# Altium schematic symbol library processor_rockchip.SchLib: 1 symbol
Pins are listed as number, name and electrical type; pins without a type are passive.

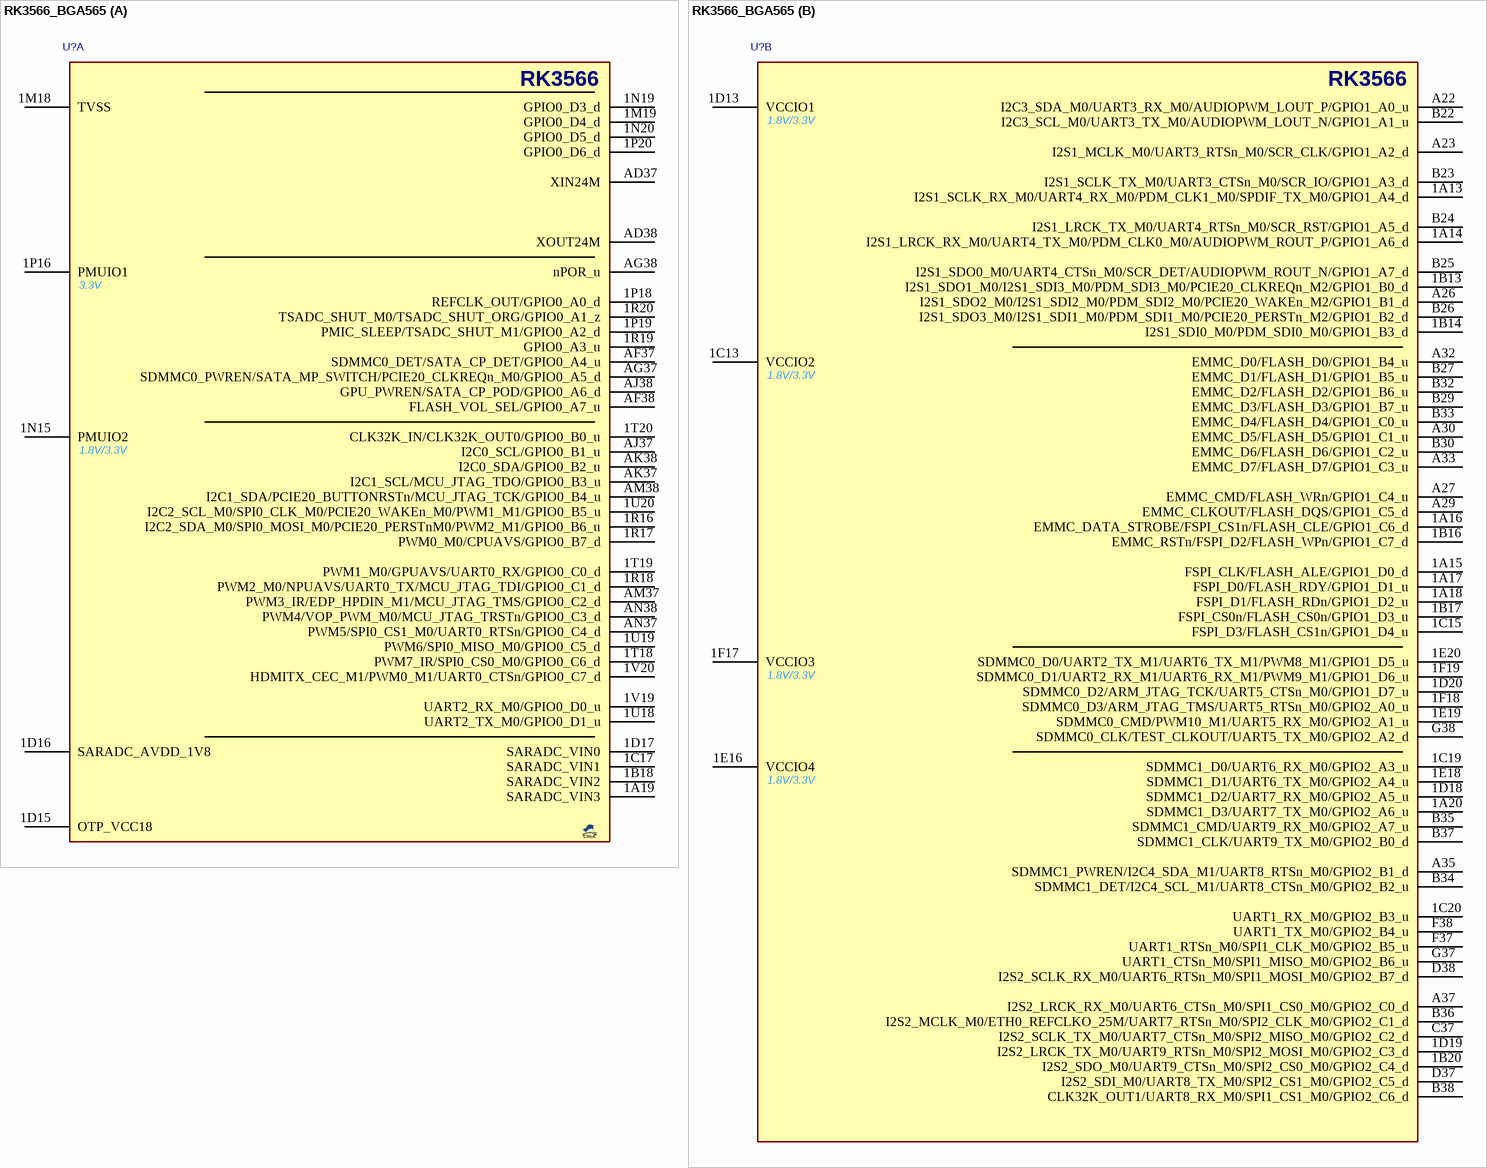
[diagram p0: symbol RK3566_BGA565]

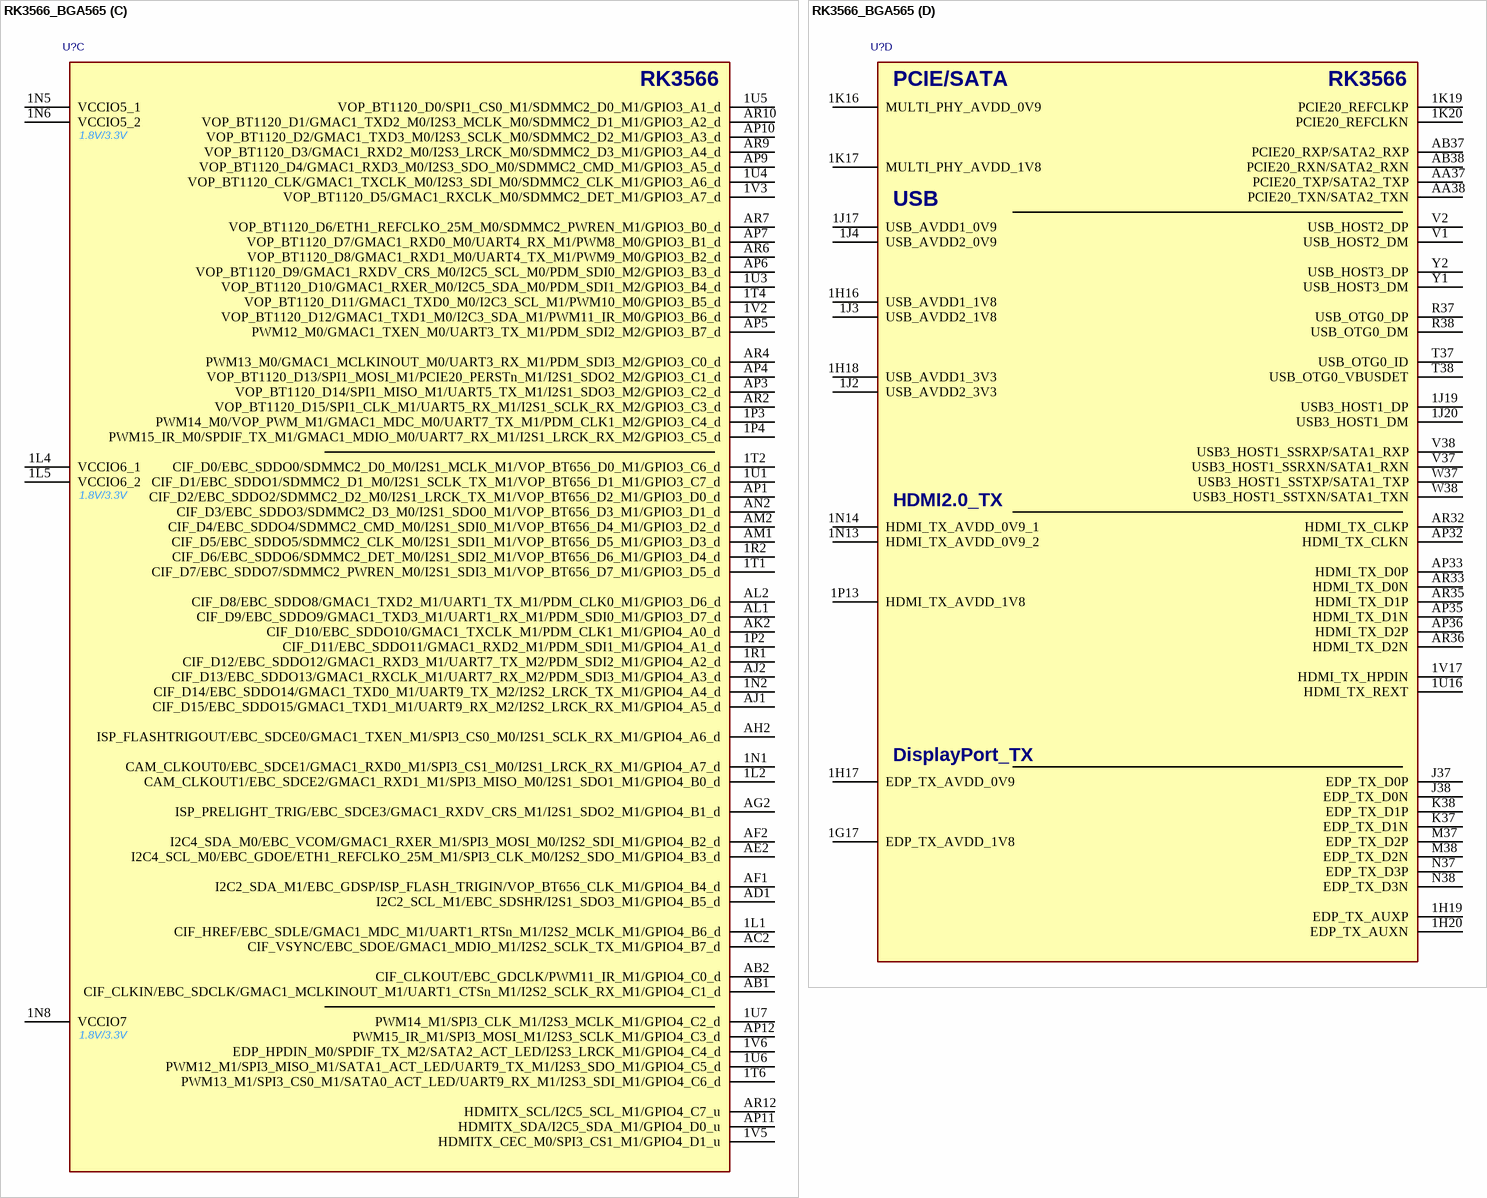
[diagram p1: symbol RK3566_BGA565]

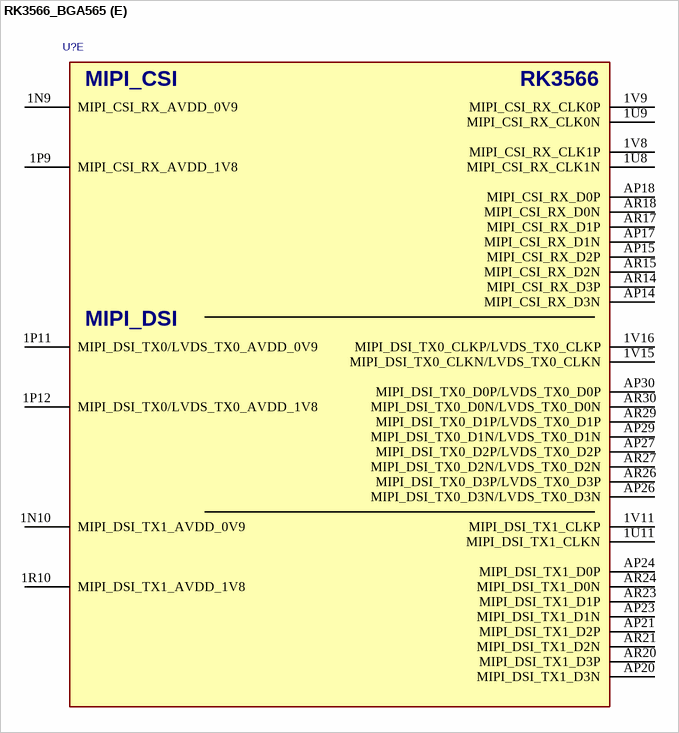
[diagram p2: symbol RK3566_BGA565]

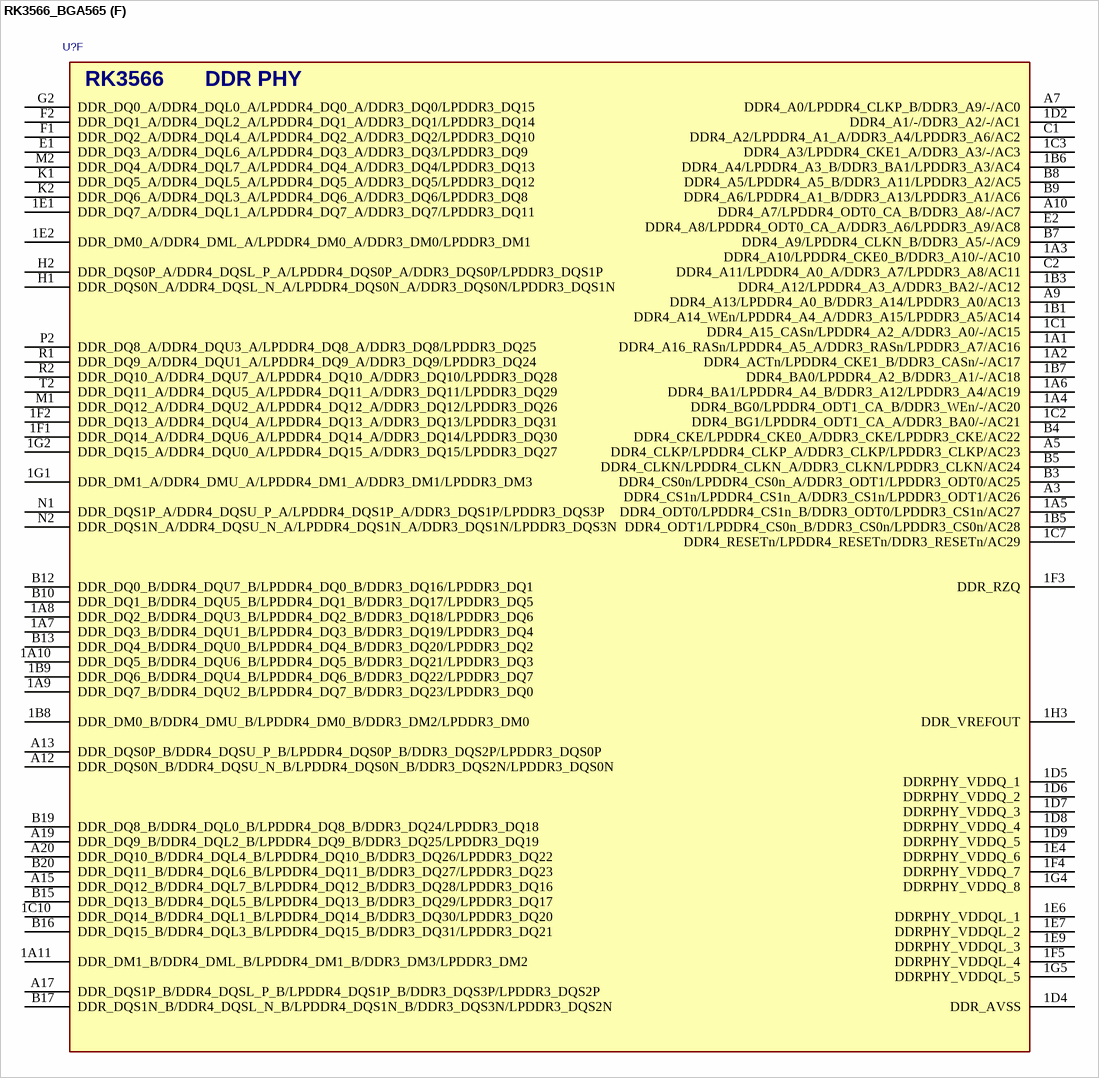
[diagram p3: symbol RK3566_BGA565]

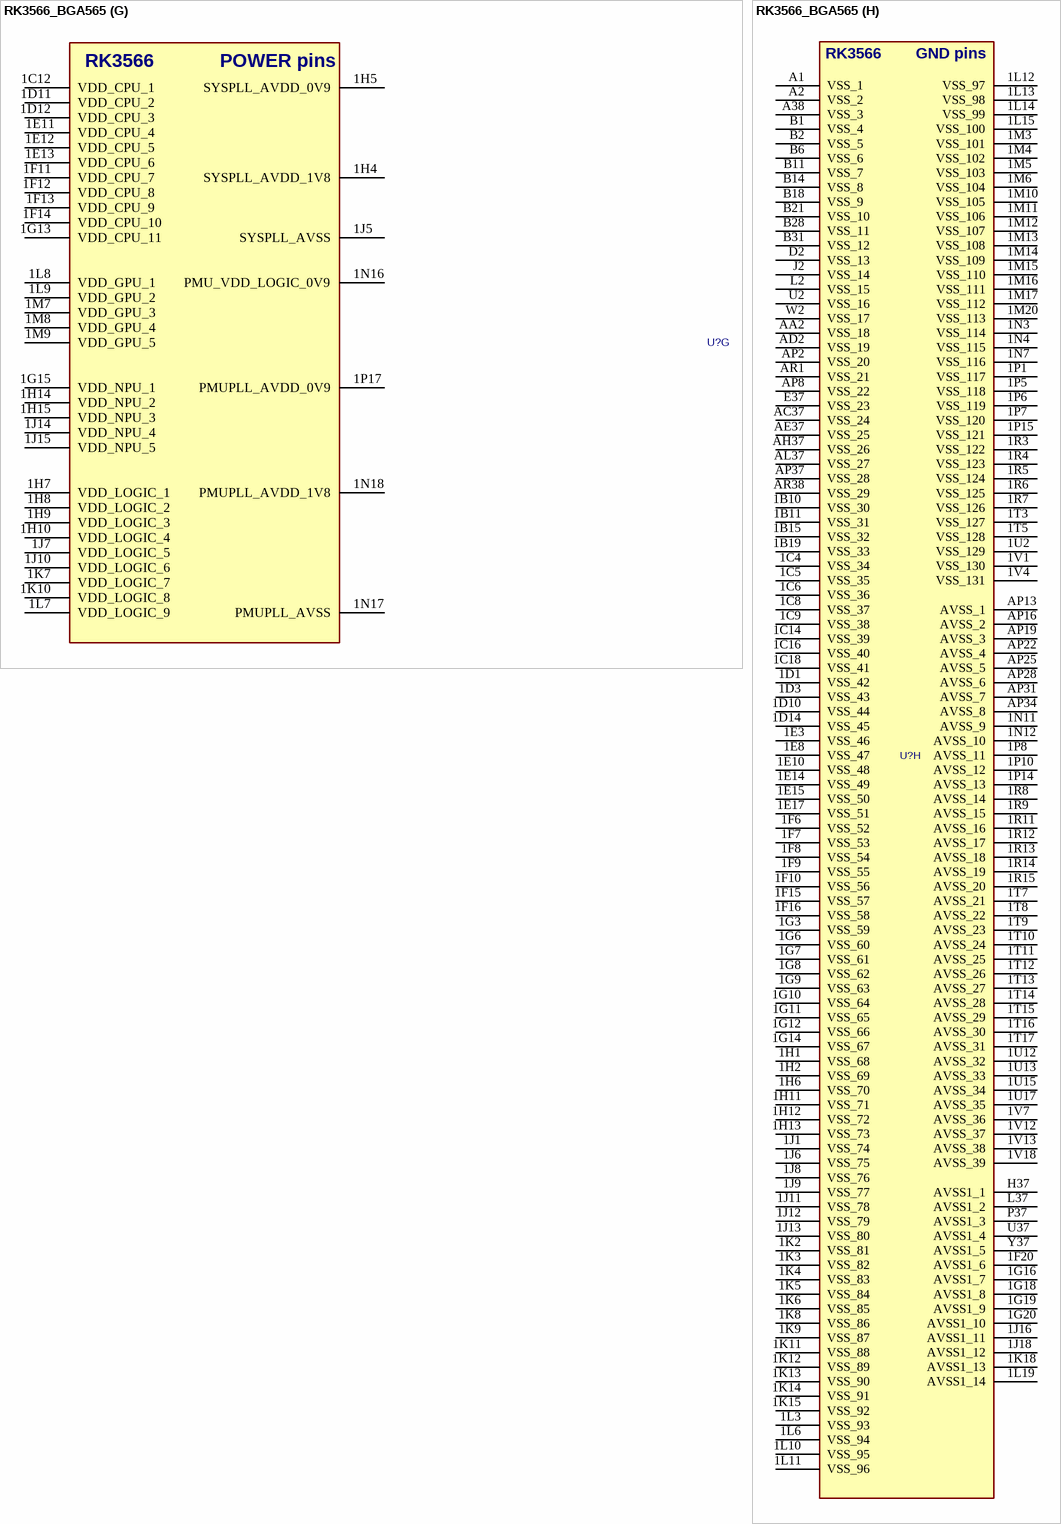
[diagram p4: symbol RK3566_BGA565]

## RK3566_BGA565
designator U?, comment RK3566  (value not drawn)
Processor, Cortex-A55 x4; MANF: Rockchip; PARAM: 4x Cortex-A55; VALUE: RK3566; MANF_P#: RK3566; PRICE: 10$
footprint BGA65_565 (BGA, FCCSP565L, Body 15.5x14.4x0.9mm, Pitch 0.65mm)
part A pins: 1A19  SARADC_VIN3, 1B18  SARADC_VIN2, 1C17  SARADC_VIN1, 1D15  OTP_VCC18, 1D16  SARADC_AVDD_1V8, 1D17  SARADC_VIN0, 1M18  TVSS, 1M19  GPIO0_D4_d, 1N15  PMUIO2, 1N19  GPIO0_D3_d, 1N20  GPIO0_D5_d, 1P16  PMUIO1, 1P18  REFCLK_OUT/GPIO0_A0_d, 1P19  PMIC_SLEEP/TSADC_SHUT_M1/GPIO0_A2_d, 1P20  GPIO0_D6_d, 1R16 I2C2_SDA_M0/SPI0_MOSI_M0/PCIE20_PERSTnM0/PWM2_M1/GPIO0_B6_u, 1R17 PWM0_M0/CPUAVS/GPIO0_B7_d, 1R18 PWM2_M0/NPUAVS/UART0_TX/MCU_JTAG_TDI/GPIO0_C1_d, 1R19 GPIO0_A3_u, 1R20 TSADC_SHUT_M0/TSADC_SHUT_ORG/GPIO0_A1_z, 1T18 PWM7_IR/SPI0_CS0_M0/GPIO0_C6_d, 1T19 PWM1_M0/GPUAVS/UART0_RX/GPIO0_C0_d, 1T20 CLK32K_IN/CLK32K_OUT0/GPIO0_B0_u, 1U18 UART2_TX_M0/GPIO0_D1_u, 1U19 PWM6/SPI0_MISO_M0/GPIO0_C5_d, 1U20 I2C2_SCL_M0/SPI0_CLK_M0/PCIE20_WAKEn_M0/PWM1_M1/GPIO0_B5_u, 1V19 UART2_RX_M0/GPIO0_D0_u, 1V20 HDMITX_CEC_M1/PWM0_M1/UART0_CTSn/GPIO0_C7_d, AD37 XIN24M, AD38 XOUT24M, AF37 SDMMC0_DET/SATA_CP_DET/GPIO0_A4_u, AF38 FLASH_VOL_SEL/GPIO0_A7_u, AG37 SDMMC0_PWREN/SATA_MP_SWITCH/PCIE20_CLKREQn_M0/GPIO0_A5_d, AG38 nPOR_u, AJ37 I2C0_SCL/GPIO0_B1_u, AJ38 GPU_PWREN/SATA_CP_POD/GPIO0_A6_d, AK37 I2C1_SCL/MCU_JTAG_TDO/GPIO0_B3_u, AK38 I2C0_SDA/GPIO0_B2_u, AM37 PWM3_IR/EDP_HPDIN_M1/MCU_JTAG_TMS/GPIO0_C2_d, AM38 I2C1_SDA/PCIE20_BUTTONRSTn/MCU_JTAG_TCK/GPIO0_B4_u, AN37 PWM5/SPI0_CS1_M0/UART0_RTSn/GPIO0_C4_d, AN38 PWM4/VOP_PWM_M0/MCU_JTAG_TRSTn/GPIO0_C3_d
part B pins: 1A13  I2S1_SCLK_RX_M0/UART4_RX_M0/PDM_CLK1_M0/SPDIF_TX_M0/GPIO1_A4_d, 1A14  I2S1_LRCK_RX_M0/UART4_TX_M0/PDM_CLK0_M0/AUDIOPWM_ROUT_P/GPIO1_A6_d, 1A15  FSPI_CLK/FLASH_ALE/GPIO1_D0_d, 1A16  EMMC_DATA_STROBE/FSPI_CS1n/FLASH_CLE/GPIO1_C6_d, 1A17  FSPI_D0/FLASH_RDY/GPIO1_D1_u, 1A18  FSPI_D1/FLASH_RDn/GPIO1_D2_u, 1A20  SDMMC1_D3/UART7_TX_M0/GPIO2_A6_u, 1B13  I2S1_SDO1_M0/I2S1_SDI3_M0/PDM_SDI3_M0/PCIE20_CLKREQn_M2/GPIO1_B0_d, 1B14  I2S1_SDI0_M0/PDM_SDI0_M0/GPIO1_B3_d, 1B16  EMMC_RSTn/FSPI_D2/FLASH_WPn/GPIO1_C7_d, 1B17  FSPI_CS0n/FLASH_CS0n/GPIO1_D3_u, 1B20  I2S2_SDO_M0/UART9_CTSn_M0/SPI2_CS0_M0/GPIO2_C4_d, 1C13  VCCIO2, 1C15  FSPI_D3/FLASH_CS1n/GPIO1_D4_u, 1C19  SDMMC1_D0/UART6_RX_M0/GPIO2_A3_u, 1C20  UART1_RX_M0/GPIO2_B3_u, 1D13  VCCIO1, 1D18  SDMMC1_D2/UART7_RX_M0/GPIO2_A5_u, 1D19  I2S2_LRCK_TX_M0/UART9_RTSn_M0/SPI2_MOSI_M0/GPIO2_C3_d, 1D20  SDMMC0_D2/ARM_JTAG_TCK/UART5_CTSn_M0/GPIO1_D7_u, 1E16 VCCIO4, 1E18 SDMMC1_D1/UART6_TX_M0/GPIO2_A4_u, 1E19 SDMMC0_CMD/PWM10_M1/UART5_RX_M0/GPIO2_A1_u, 1E20 SDMMC0_D0/UART2_TX_M1/UART6_TX_M1/PWM8_M1/GPIO1_D5_u, 1F17  VCCIO3, 1F18  SDMMC0_D3/ARM_JTAG_TMS/UART5_RTSn_M0/GPIO2_A0_u, 1F19  SDMMC0_D1/UART2_RX_M1/UART6_RX_M1/PWM9_M1/GPIO1_D6_u, A22 I2C3_SDA_M0/UART3_RX_M0/AUDIOPWM_LOUT_P/GPIO1_A0_u, A23 I2S1_MCLK_M0/UART3_RTSn_M0/SCR_CLK/GPIO1_A2_d, A26 I2S1_SDO2_M0/I2S1_SDI2_M0/PDM_SDI2_M0/PCIE20_WAKEn_M2/GPIO1_B1_d, A27 EMMC_CMD/FLASH_WRn/GPIO1_C4_u, A29 EMMC_CLKOUT/FLASH_DQS/GPIO1_C5_d, A30 EMMC_D5/FLASH_D5/GPIO1_C1_u, A32 EMMC_D0/FLASH_D0/GPIO1_B4_u, A33 EMMC_D7/FLASH_D7/GPIO1_C3_u, A35 SDMMC1_PWREN/I2C4_SDA_M1/UART8_RTSn_M0/GPIO2_B1_d, A37 I2S2_LRCK_RX_M0/UART6_CTSn_M0/SPI1_CS0_M0/GPIO2_C0_d, B22 I2C3_SCL_M0/UART3_TX_M0/AUDIOPWM_LOUT_N/GPIO1_A1_u, B23 I2S1_SCLK_TX_M0/UART3_CTSn_M0/SCR_IO/GPIO1_A3_d, B24 I2S1_LRCK_TX_M0/UART4_RTSn_M0/SCR_RST/GPIO1_A5_d, B25 I2S1_SDO0_M0/UART4_CTSn_M0/SCR_DET/AUDIOPWM_ROUT_N/GPIO1_A7_d, B26 I2S1_SDO3_M0/I2S1_SDI1_M0/PDM_SDI1_M0/PCIE20_PERSTn_M2/GPIO1_B2_d, B27 EMMC_D1/FLASH_D1/GPIO1_B5_u, B29 EMMC_D3/FLASH_D3/GPIO1_B7_u, B30 EMMC_D6/FLASH_D6/GPIO1_C2_u, B32 EMMC_D2/FLASH_D2/GPIO1_B6_u, B33 EMMC_D4/FLASH_D4/GPIO1_C0_u, B34 SDMMC1_DET/I2C4_SCL_M1/UART8_CTSn_M0/GPIO2_B2_u, B35 SDMMC1_CMD/UART9_RX_M0/GPIO2_A7_u, B36 I2S2_MCLK_M0/ETH0_REFCLKO_25M/UART7_RTSn_M0/SPI2_CLK_M0/GPIO2_C1_d, B37 SDMMC1_CLK/UART9_TX_M0/GPIO2_B0_d, B38 CLK32K_OUT1/UART8_RX_M0/SPI1_CS1_M0/GPIO2_C6_d, C37 I2S2_SCLK_TX_M0/UART7_CTSn_M0/SPI2_MISO_M0/GPIO2_C2_d, D37 I2S2_SDI_M0/UART8_TX_M0/SPI2_CS1_M0/GPIO2_C5_d, D38 I2S2_SCLK_RX_M0/UART6_RTSn_M0/SPI1_MOSI_M0/GPIO2_B7_d, F37 UART1_RTSn_M0/SPI1_CLK_M0/GPIO2_B5_u, F38 UART1_TX_M0/GPIO2_B4_u, G37 UART1_CTSn_M0/SPI1_MISO_M0/GPIO2_B6_u, G38 SDMMC0_CLK/TEST_CLKOUT/UART5_TX_M0/GPIO2_A2_d
part C pins: 1L1  CIF_HREF/EBC_SDLE/GMAC1_MDC_M1/UART1_RTSn_M1/I2S2_MCLK_M1/GPIO4_B6_d, 1L2  CAM_CLKOUT1/EBC_SDCE2/GMAC1_RXD1_M1/SPI3_MISO_M0/I2S1_SDO1_M1/GPIO4_B0_d, 1L4  VCCIO6_1, 1L5  VCCIO6_2, 1N1  CAM_CLKOUT0/EBC_SDCE1/GMAC1_RXD0_M1/SPI3_CS1_M0/I2S1_LRCK_RX_M1/GPIO4_A7_d, 1N2  CIF_D14/EBC_SDDO14/GMAC1_TXD0_M1/UART9_TX_M2/I2S2_LRCK_TX_M1/GPIO4_A4_d, 1N5  VCCIO5_1, 1N6  VCCIO5_2, 1N8  VCCIO7, 1P2  CIF_D11/EBC_SDDO11/GMAC1_RXD2_M1/PDM_SDI1_M1/GPIO4_A1_d, 1P3  PWM14_M0/VOP_PWM_M1/GMAC1_MDC_M0/UART7_TX_M1/PDM_CLK1_M2/GPIO3_C4_d, 1P4  PWM15_IR_M0/SPDIF_TX_M1/GMAC1_MDIO_M0/UART7_RX_M1/I2S1_LRCK_RX_M2/GPIO3_C5_d, 1R1  CIF_D12/EBC_SDDO12/GMAC1_RXD3_M1/UART7_TX_M2/PDM_SDI2_M1/GPIO4_A2_d, 1R2  CIF_D6/EBC_SDDO6/SDMMC2_DET_M0/I2S1_SDI2_M1/VOP_BT656_D6_M1/GPIO3_D4_d, 1T1 CIF_D7/EBC_SDDO7/SDMMC2_PWREN_M0/I2S1_SDI3_M1/VOP_BT656_D7_M1/GPIO3_D5_d, 1T2 CIF_D0/EBC_SDDO0/SDMMC2_D0_M0/I2S1_MCLK_M1/VOP_BT656_D0_M1/GPIO3_C6_d, 1T4 VOP_BT1120_D11/GMAC1_TXD0_M0/I2C3_SCL_M1/PWM10_M0/GPIO3_B5_d, 1T6 PWM13_M1/SPI3_CS0_M1/SATA0_ACT_LED/UART9_RX_M1/I2S3_SDI_M1/GPIO4_C6_d, 1U1 CIF_D1/EBC_SDDO1/SDMMC2_D1_M0/I2S1_SCLK_TX_M1/VOP_BT656_D1_M1/GPIO3_C7_d, 1U3 VOP_BT1120_D10/GMAC1_RXER_M0/I2C5_SDA_M0/PDM_SDI1_M2/GPIO3_B4_d, 1U4 VOP_BT1120_CLK/GMAC1_TXCLK_M0/I2S3_SDI_M0/SDMMC2_CLK_M1/GPIO3_A6_d, 1U5 VOP_BT1120_D0/SPI1_CS0_M1/SDMMC2_D0_M1/GPIO3_A1_d, 1U6 PWM12_M1/SPI3_MISO_M1/SATA1_ACT_LED/UART9_TX_M1/I2S3_SDO_M1/GPIO4_C5_d, 1U7 PWM14_M1/SPI3_CLK_M1/I2S3_MCLK_M1/GPIO4_C2_d, 1V2 VOP_BT1120_D12/GMAC1_TXD1_M0/I2C3_SDA_M1/PWM11_IR_M0/GPIO3_B6_d, 1V3 VOP_BT1120_D5/GMAC1_RXCLK_M0/SDMMC2_DET_M1/GPIO3_A7_d, 1V5 HDMITX_CEC_M0/SPI3_CS1_M1/GPIO4_D1_u, 1V6 EDP_HPDIN_M0/SPDIF_TX_M2/SATA2_ACT_LED/I2S3_LRCK_M1/GPIO4_C4_d, AB1 CIF_CLKIN/EBC_SDCLK/GMAC1_MCLKINOUT_M1/UART1_CTSn_M1/I2S2_SCLK_RX_M1/GPIO4_C1_d, AB2 CIF_CLKOUT/EBC_GDCLK/PWM11_IR_M1/GPIO4_C0_d, AC2 CIF_VSYNC/EBC_SDOE/GMAC1_MDIO_M1/I2S2_SCLK_TX_M1/GPIO4_B7_d, AD1 I2C2_SCL_M1/EBC_SDSHR/I2S1_SDO3_M1/GPIO4_B5_d, AE2 I2C4_SCL_M0/EBC_GDOE/ETH1_REFCLKO_25M_M1/SPI3_CLK_M0/I2S2_SDO_M1/GPIO4_B3_d, AF1 I2C2_SDA_M1/EBC_GDSP/ISP_FLASH_TRIGIN/VOP_BT656_CLK_M1/GPIO4_B4_d, AF2 I2C4_SDA_M0/EBC_VCOM/GMAC1_RXER_M1/SPI3_MOSI_M0/I2S2_SDI_M1/GPIO4_B2_d, AG2 ISP_PRELIGHT_TRIG/EBC_SDCE3/GMAC1_RXDV_CRS_M1/I2S1_SDO2_M1/GPIO4_B1_d, AH2 ISP_FLASHTRIGOUT/EBC_SDCE0/GMAC1_TXEN_M1/SPI3_CS0_M0/I2S1_SCLK_RX_M1/GPIO4_A6_d, AJ1 CIF_D15/EBC_SDDO15/GMAC1_TXD1_M1/UART9_RX_M2/I2S2_LRCK_RX_M1/GPIO4_A5_d, AJ2 CIF_D13/EBC_SDDO13/GMAC1_RXCLK_M1/UART7_RX_M2/PDM_SDI3_M1/GPIO4_A3_d, AK2 CIF_D10/EBC_SDDO10/GMAC1_TXCLK_M1/PDM_CLK1_M1/GPIO4_A0_d, AL1 CIF_D9/EBC_SDDO9/GMAC1_TXD3_M1/UART1_RX_M1/PDM_SDI0_M1/GPIO3_D7_d, AL2 CIF_D8/EBC_SDDO8/GMAC1_TXD2_M1/UART1_TX_M1/PDM_CLK0_M1/GPIO3_D6_d, AM1 CIF_D5/EBC_SDDO5/SDMMC2_CLK_M0/I2S1_SDI1_M1/VOP_BT656_D5_M1/GPIO3_D3_d, AM2 CIF_D4/EBC_SDDO4/SDMMC2_CMD_M0/I2S1_SDI0_M1/VOP_BT656_D4_M1/GPIO3_D2_d, AN2 CIF_D3/EBC_SDDO3/SDMMC2_D3_M0/I2S1_SDO0_M1/VOP_BT656_D3_M1/GPIO3_D1_d, AP1 CIF_D2/EBC_SDDO2/SDMMC2_D2_M0/I2S1_LRCK_TX_M1/VOP_BT656_D2_M1/GPIO3_D0_d, AP3 VOP_BT1120_D14/SPI1_MISO_M1/UART5_TX_M1/I2S1_SDO3_M2/GPIO3_C2_d, AP4 VOP_BT1120_D13/SPI1_MOSI_M1/PCIE20_PERSTn_M1/I2S1_SDO2_M2/GPIO3_C1_d, AP5 PWM12_M0/GMAC1_TXEN_M0/UART3_TX_M1/PDM_SDI2_M2/GPIO3_B7_d, AP6 VOP_BT1120_D9/GMAC1_RXDV_CRS_M0/I2C5_SCL_M0/PDM_SDI0_M2/GPIO3_B3_d, AP7 VOP_BT1120_D7/GMAC1_RXD0_M0/UART4_RX_M1/PWM8_M0/GPIO3_B1_d, AP9 VOP_BT1120_D4/GMAC1_RXD3_M0/I2S3_SDO_M0/SDMMC2_CMD_M1/GPIO3_A5_d, AP10 VOP_BT1120_D2/GMAC1_TXD3_M0/I2S3_SCLK_M0/SDMMC2_D2_M1/GPIO3_A3_d, AP11 HDMITX_SDA/I2C5_SDA_M1/GPIO4_D0_u, AP12 PWM15_IR_M1/SPI3_MOSI_M1/I2S3_SCLK_M1/GPIO4_C3_d, AR2 VOP_BT1120_D15/SPI1_CLK_M1/UART5_RX_M1/I2S1_SCLK_RX_M2/GPIO3_C3_d, AR4 PWM13_M0/GMAC1_MCLKINOUT_M0/UART3_RX_M1/PDM_SDI3_M2/GPIO3_C0_d, AR6 VOP_BT1120_D8/GMAC1_RXD1_M0/UART4_TX_M1/PWM9_M0/GPIO3_B2_d, AR7 VOP_BT1120_D6/ETH1_REFCLKO_25M_M0/SDMMC2_PWREN_M1/GPIO3_B0_d, AR9 VOP_BT1120_D3/GMAC1_RXD2_M0/I2S3_LRCK_M0/SDMMC2_D3_M1/GPIO3_A4_d, AR10 VOP_BT1120_D1/GMAC1_TXD2_M0/I2S3_MCLK_M0/SDMMC2_D1_M1/GPIO3_A2_d, AR12 HDMITX_SCL/I2C5_SCL_M1/GPIO4_C7_u
part D pins: 1G17  EDP_TX_AVDD_1V8, 1H16  USB_AVDD1_1V8, 1H17  EDP_TX_AVDD_0V9, 1H18  USB_AVDD1_3V3, 1H19  EDP_TX_AUXP, 1H20  EDP_TX_AUXN, 1J2  USB_AVDD2_3V3, 1J3  USB_AVDD2_1V8, 1J4  USB_AVDD2_0V9, 1J17  USB_AVDD1_0V9, 1J19  USB3_HOST1_DP, 1J20  USB3_HOST1_DM, 1K16  MULTI_PHY_AVDD_0V9, 1K17  MULTI_PHY_AVDD_1V8, 1K19  PCIE20_REFCLKP, 1K20  PCIE20_REFCLKN, 1N13  HDMI_TX_AVDD_0V9_2, 1N14  HDMI_TX_AVDD_0V9_1, 1P13  HDMI_TX_AVDD_1V8, 1U16 HDMI_TX_REXT, 1V17 HDMI_TX_HPDIN, AA37 PCIE20_TXP/SATA2_TXP, AA38 PCIE20_TXN/SATA2_TXN, AB37 PCIE20_RXP/SATA2_RXP, AB38 PCIE20_RXN/SATA2_RXN, AP32 HDMI_TX_CLKN, AP33 HDMI_TX_D0P, AP35 HDMI_TX_D1N, AP36 HDMI_TX_D2P, AR32 HDMI_TX_CLKP, AR33 HDMI_TX_D0N, AR35 HDMI_TX_D1P, AR36 HDMI_TX_D2N, J37 EDP_TX_D0P, J38 EDP_TX_D0N, K37 EDP_TX_D1N, K38 EDP_TX_D1P, M37 EDP_TX_D2P, M38 EDP_TX_D2N, N37 EDP_TX_D3P, N38 EDP_TX_D3N, R37 USB_OTG0_DP, R38 USB_OTG0_DM, T37 USB_OTG0_ID, T38 USB_OTG0_VBUSDET, V1 USB_HOST2_DM, V2 USB_HOST2_DP, V37 USB3_HOST1_SSRXN/SATA1_RXN, V38 USB3_HOST1_SSRXP/SATA1_RXP, W37 USB3_HOST1_SSTXP/SATA1_TXP, W38 USB3_HOST1_SSTXN/SATA1_TXN, Y1 USB_HOST3_DM, Y2 USB_HOST3_DP
part E pins: 1N9  MIPI_CSI_RX_AVDD_0V9, 1N10  MIPI_DSI_TX1_AVDD_0V9, 1P9  MIPI_CSI_RX_AVDD_1V8, 1P11  MIPI_DSI_TX0/LVDS_TX0_AVDD_0V9, 1P12  MIPI_DSI_TX0/LVDS_TX0_AVDD_1V8, 1R10  MIPI_DSI_TX1_AVDD_1V8, 1U8 MIPI_CSI_RX_CLK1N, 1U9 MIPI_CSI_RX_CLK0N, 1U11 MIPI_DSI_TX1_CLKN, 1V8 MIPI_CSI_RX_CLK1P, 1V9 MIPI_CSI_RX_CLK0P, 1V11 MIPI_DSI_TX1_CLKP, 1V15 MIPI_DSI_TX0_CLKN/LVDS_TX0_CLKN, 1V16 MIPI_DSI_TX0_CLKP/LVDS_TX0_CLKP, AP14 MIPI_CSI_RX_D3N, AP15 MIPI_CSI_RX_D2P, AP17 MIPI_CSI_RX_D1N, AP18 MIPI_CSI_RX_D0P, AP20 MIPI_DSI_TX1_D3N, AP21 MIPI_DSI_TX1_D2P, AP23 MIPI_DSI_TX1_D1N, AP24 MIPI_DSI_TX1_D0P, AP26 MIPI_DSI_TX0_D3N/LVDS_TX0_D3N, AP27 MIPI_DSI_TX0_D2P/LVDS_TX0_D2P, AP29 MIPI_DSI_TX0_D1N/LVDS_TX0_D1N, AP30 MIPI_DSI_TX0_D0P/LVDS_TX0_D0P, AR14 MIPI_CSI_RX_D3P, AR15 MIPI_CSI_RX_D2N, AR17 MIPI_CSI_RX_D1P, AR18 MIPI_CSI_RX_D0N, AR20 MIPI_DSI_TX1_D3P, AR21 MIPI_DSI_TX1_D2N, AR23 MIPI_DSI_TX1_D1P, AR24 MIPI_DSI_TX1_D0N, AR26 MIPI_DSI_TX0_D3P/LVDS_TX0_D3P, AR27 MIPI_DSI_TX0_D2N/LVDS_TX0_D2N, AR29 MIPI_DSI_TX0_D1P/LVDS_TX0_D1P, AR30 MIPI_DSI_TX0_D0N/LVDS_TX0_D0N
part F pins: 1A1 DDR4_A16_RASn/LPDDR4_A5_A/DDR3_RASn/LPDDR3_A7/AC16, 1A2 DDR4_ACTn/LPDDR4_CKE1_B/DDR3_CASn/-/AC17, 1A3 DDR4_A10/LPDDR4_CKE0_B/DDR3_A10/-/AC10, 1A4 DDR4_BG0/LPDDR4_ODT1_CA_B/DDR3_WEn/-/AC20, 1A5 DDR4_ODT0/LPDDR4_CS1n_B/DDR3_ODT0/LPDDR3_CS1n/AC27, 1A6 DDR4_BA1/LPDDR4_A4_B/DDR3_A12/LPDDR3_A4/AC19, 1A7 DDR_DQ3_B/DDR4_DQU1_B/LPDDR4_DQ3_B/DDR3_DQ19/LPDDR3_DQ4, 1A8 DDR_DQ2_B/DDR4_DQU3_B/LPDDR4_DQ2_B/DDR3_DQ18/LPDDR3_DQ6, 1A9  DDR_DQ7_B/DDR4_DQU2_B/LPDDR4_DQ7_B/DDR3_DQ23/LPDDR3_DQ0, 1A10  DDR_DQ5_B/DDR4_DQU6_B/LPDDR4_DQ5_B/DDR3_DQ21/LPDDR3_DQ3, 1A11  DDR_DM1_B/DDR4_DML_B/LPDDR4_DM1_B/DDR3_DM3/LPDDR3_DM2, 1B1  DDR4_A14_WEn/LPDDR4_A4_A/DDR3_A15/LPDDR3_A5/AC14, 1B3  DDR4_A12/LPDDR4_A3_A/DDR3_BA2/-/AC12, 1B5  DDR4_ODT1/LPDDR4_CS0n_B/DDR3_CS0n/LPDDR3_CS0n/AC28, 1B6  DDR4_A4/LPDDR4_A3_B/DDR3_BA1/LPDDR3_A3/AC4, 1B7  DDR4_BA0/LPDDR4_A2_B/DDR3_A1/-/AC18, 1B8  DDR_DM0_B/DDR4_DMU_B/LPDDR4_DM0_B/DDR3_DM2/LPDDR3_DM0, 1B9  DDR_DQ6_B/DDR4_DQU4_B/LPDDR4_DQ6_B/DDR3_DQ22/LPDDR3_DQ7, 1C1  DDR4_A15_CASn/LPDDR4_A2_A/DDR3_A0/-/AC15, 1C2  DDR4_BG1/LPDDR4_ODT1_CA_A/DDR3_BA0/-/AC21, 1C3  DDR4_A3/LPDDR4_CKE1_A/DDR3_A3/-/AC3, 1C7  DDR4_RESETn/LPDDR4_RESETn/DDR3_RESETn/AC29, 1C10  DDR_DQ14_B/DDR4_DQL1_B/LPDDR4_DQ14_B/DDR3_DQ30/LPDDR3_DQ20, 1D2  DDR4_A1/-/DDR3_A2/-/AC1, 1D4  DDR_AVSS, 1D5  DDRPHY_VDDQ_1, 1D6  DDRPHY_VDDQ_2, 1D7  DDRPHY_VDDQ_3, 1D8  DDRPHY_VDDQ_4, 1D9  DDRPHY_VDDQ_5, 1E1 DDR_DQ7_A/DDR4_DQL1_A/LPDDR4_DQ7_A/DDR3_DQ7/LPDDR3_DQ11, 1E2 DDR_DM0_A/DDR4_DML_A/LPDDR4_DM0_A/DDR3_DM0/LPDDR3_DM1, 1E4 DDRPHY_VDDQ_6, 1E6 DDRPHY_VDDQL_1, 1E7 DDRPHY_VDDQL_2, 1E9 DDRPHY_VDDQL_3, 1F1  DDR_DQ14_A/DDR4_DQU6_A/LPDDR4_DQ14_A/DDR3_DQ14/LPDDR3_DQ30, 1F2  DDR_DQ13_A/DDR4_DQU4_A/LPDDR4_DQ13_A/DDR3_DQ13/LPDDR3_DQ31, 1F3  DDR_RZQ, 1F4  DDRPHY_VDDQ_7, 1F5  DDRPHY_VDDQL_4, 1G1  DDR_DM1_A/DDR4_DMU_A/LPDDR4_DM1_A/DDR3_DM1/LPDDR3_DM3, 1G2  DDR_DQ15_A/DDR4_DQU0_A/LPDDR4_DQ15_A/DDR3_DQ15/LPDDR3_DQ27, 1G4  DDRPHY_VDDQ_8, 1G5  DDRPHY_VDDQL_5, 1H3  DDR_VREFOUT, A3 DDR4_CS1n/LPDDR4_CS1n_A/DDR3_CS1n/LPDDR3_ODT1/AC26, A5 DDR4_CLKP/LPDDR4_CLKP_A/DDR3_CLKP/LPDDR3_CLKP/AC23, A7 DDR4_A0/LPDDR4_CLKP_B/DDR3_A9/-/AC0, A9 DDR4_A13/LPDDR4_A0_B/DDR3_A14/LPDDR3_A0/AC13, A10 DDR4_A7/LPDDR4_ODT0_CA_B/DDR3_A8/-/AC7, A12 DDR_DQS0N_B/DDR4_DQSU_N_B/LPDDR4_DQS0N_B/DDR3_DQS2N/LPDDR3_DQS0N, A13 DDR_DQS0P_B/DDR4_DQSU_P_B/LPDDR4_DQS0P_B/DDR3_DQS2P/LPDDR3_DQS0P, A15 DDR_DQ12_B/DDR4_DQL7_B/LPDDR4_DQ12_B/DDR3_DQ28/LPDDR3_DQ16, A17 DDR_DQS1P_B/DDR4_DQSL_P_B/LPDDR4_DQS1P_B/DDR3_DQS3P/LPDDR3_DQS2P, A19 DDR_DQ9_B/DDR4_DQL2_B/LPDDR4_DQ9_B/DDR3_DQ25/LPDDR3_DQ19, A20 DDR_DQ10_B/DDR4_DQL4_B/LPDDR4_DQ10_B/DDR3_DQ26/LPDDR3_DQ22, B3 DDR4_CS0n/LPDDR4_CS0n_A/DDR3_ODT1/LPDDR3_ODT0/AC25, B4 DDR4_CKE/LPDDR4_CKE0_A/DDR3_CKE/LPDDR3_CKE/AC22, B5 DDR4_CLKN/LPDDR4_CLKN_A/DDR3_CLKN/LPDDR3_CLKN/AC24, B7 DDR4_A9/LPDDR4_CLKN_B/DDR3_A5/-/AC9, B8 DDR4_A5/LPDDR4_A5_B/DDR3_A11/LPDDR3_A2/AC5, B9 DDR4_A6/LPDDR4_A1_B/DDR3_A13/LPDDR3_A1/AC6, B10 DDR_DQ1_B/DDR4_DQU5_B/LPDDR4_DQ1_B/DDR3_DQ17/LPDDR3_DQ5, B12 DDR_DQ0_B/DDR4_DQU7_B/LPDDR4_DQ0_B/DDR3_DQ16/LPDDR3_DQ1, B13 DDR_DQ4_B/DDR4_DQU0_B/LPDDR4_DQ4_B/DDR3_DQ20/LPDDR3_DQ2, B15 DDR_DQ13_B/DDR4_DQL5_B/LPDDR4_DQ13_B/DDR3_DQ29/LPDDR3_DQ17, B16 DDR_DQ15_B/DDR4_DQL3_B/LPDDR4_DQ15_B/DDR3_DQ31/LPDDR3_DQ21, B17 DDR_DQS1N_B/DDR4_DQSL_N_B/LPDDR4_DQS1N_B/DDR3_DQS3N/LPDDR3_DQS2N, B19 DDR_DQ8_B/DDR4_DQL0_B/LPDDR4_DQ8_B/DDR3_DQ24/LPDDR3_DQ18, B20 DDR_DQ11_B/DDR4_DQL6_B/LPDDR4_DQ11_B/DDR3_DQ27/LPDDR3_DQ23, C1 DDR4_A2/LPDDR4_A1_A/DDR3_A4/LPDDR3_A6/AC2, C2 DDR4_A11/LPDDR4_A0_A/DDR3_A7/LPDDR3_A8/AC11, E1 DDR_DQ3_A/DDR4_DQL6_A/LPDDR4_DQ3_A/DDR3_DQ3/LPDDR3_DQ9, E2 DDR4_A8/LPDDR4_ODT0_CA_A/DDR3_A6/LPDDR3_A9/AC8, F1 DDR_DQ2_A/DDR4_DQL4_A/LPDDR4_DQ2_A/DDR3_DQ2/LPDDR3_DQ10, F2 DDR_DQ1_A/DDR4_DQL2_A/LPDDR4_DQ1_A/DDR3_DQ1/LPDDR3_DQ14, G2 DDR_DQ0_A/DDR4_DQL0_A/LPDDR4_DQ0_A/DDR3_DQ0/LPDDR3_DQ15, H1 DDR_DQS0N_A/DDR4_DQSL_N_A/LPDDR4_DQS0N_A/DDR3_DQS0N/LPDDR3_DQS1N, H2 DDR_DQS0P_A/DDR4_DQSL_P_A/LPDDR4_DQS0P_A/DDR3_DQS0P/LPDDR3_DQS1P, K1 DDR_DQ5_A/DDR4_DQL5_A/LPDDR4_DQ5_A/DDR3_DQ5/LPDDR3_DQ12, K2 DDR_DQ6_A/DDR4_DQL3_A/LPDDR4_DQ6_A/DDR3_DQ6/LPDDR3_DQ8, M1 DDR_DQ12_A/DDR4_DQU2_A/LPDDR4_DQ12_A/DDR3_DQ12/LPDDR3_DQ26, M2 DDR_DQ4_A/DDR4_DQL7_A/LPDDR4_DQ4_A/DDR3_DQ4/LPDDR3_DQ13, N1 DDR_DQS1P_A/DDR4_DQSU_P_A/LPDDR4_DQS1P_A/DDR3_DQS1P/LPDDR3_DQS3P, N2 DDR_DQS1N_A/DDR4_DQSU_N_A/LPDDR4_DQS1N_A/DDR3_DQS1N/LPDDR3_DQS3N, P2 DDR_DQ8_A/DDR4_DQU3_A/LPDDR4_DQ8_A/DDR3_DQ8/LPDDR3_DQ25, R1 DDR_DQ9_A/DDR4_DQU1_A/LPDDR4_DQ9_A/DDR3_DQ9/LPDDR3_DQ24, R2 DDR_DQ10_A/DDR4_DQU7_A/LPDDR4_DQ10_A/DDR3_DQ10/LPDDR3_DQ28, T2 DDR_DQ11_A/DDR4_DQU5_A/LPDDR4_DQ11_A/DDR3_DQ11/LPDDR3_DQ29
part G pins: 1C12  VDD_CPU_1, 1D11  VDD_CPU_2, 1D12  VDD_CPU_3, 1E11 VDD_CPU_4, 1E12 VDD_CPU_5, 1E13 VDD_CPU_6, 1F11  VDD_CPU_7, 1F12  VDD_CPU_8, 1F13 VDD_CPU_9, 1F14  VDD_CPU_10, 1G13  VDD_CPU_11, 1G15  VDD_NPU_1, 1H4  SYSPLL_AVDD_1V8, 1H5  SYSPLL_AVDD_0V9, 1H7  VDD_LOGIC_1, 1H8  VDD_LOGIC_2, 1H9  VDD_LOGIC_3, 1H10  VDD_LOGIC_4, 1H14  VDD_NPU_2, 1H15  VDD_NPU_3, 1J5  SYSPLL_AVSS, 1J7  VDD_LOGIC_5, 1J10  VDD_LOGIC_6, 1J14  VDD_NPU_4, 1J15  VDD_NPU_5, 1K7  VDD_LOGIC_7, 1K10  VDD_LOGIC_8, 1L7  VDD_LOGIC_9, 1L8  VDD_GPU_1, 1L9  VDD_GPU_2, 1M7  VDD_GPU_3, 1M8  VDD_GPU_4, 1M9  VDD_GPU_5, 1N16  PMU_VDD_LOGIC_0V9, 1N17  PMUPLL_AVSS, 1N18  PMUPLL_AVDD_1V8, 1P17  PMUPLL_AVDD_0V9
part H pins: 1B10  VSS_30, 1B11  VSS_31, 1B15  VSS_32, 1B19  VSS_33, 1C4  VSS_34, 1C5  VSS_35, 1C6  VSS_36, 1C8  VSS_37, 1C9  VSS_38, 1C14  VSS_39, 1C16  VSS_40, 1C18  VSS_41, 1D1  VSS_42, 1D3  VSS_43, 1D10  VSS_44, 1D14  VSS_45, 1E3 VSS_46, 1E8 VSS_47, 1E10 VSS_48, 1E14 VSS_49, 1E15 VSS_50, 1E17 VSS_51, 1F6  VSS_52, 1F7  VSS_53, 1F8  VSS_54, 1F9  VSS_55, 1F10  VSS_56, 1F15  VSS_57, 1F16  VSS_58, 1F20  AVSS1_6, 1G3  VSS_59, 1G6  VSS_60, 1G7  VSS_61, 1G8  VSS_62, 1G9  VSS_63, 1G10  VSS_64, 1G11  VSS_65, 1G12  VSS_66, 1G14  VSS_67, 1G16  AVSS1_7, 1G18  AVSS1_8, 1G19  AVSS1_9, 1G20  AVSS1_10, 1H1  VSS_68, 1H2  VSS_69, 1H6  VSS_70, 1H11  VSS_71, 1H12  VSS_72, 1H13  VSS_73, 1J1  VSS_74, 1J6  VSS_75, 1J8  VSS_76, 1J9  VSS_77, 1J11  VSS_78, 1J12  VSS_79, 1J13  VSS_80, 1J16  AVSS1_11, 1J18  AVSS1_12, 1K2  VSS_81, 1K3  VSS_82, 1K4  VSS_83, 1K5  VSS_84, 1K6  VSS_85, 1K8  VSS_86, 1K9  VSS_87, 1K11  VSS_88, 1K12  VSS_89, 1K13  VSS_90, 1K14  VSS_91, 1K15  VSS_92, 1K18  AVSS1_13, 1L3  VSS_93, 1L6  VSS_94, 1L10  VSS_95, 1L11  VSS_96, 1L12  VSS_97, 1L13  VSS_98, 1L14  VSS_99, 1L15  VSS_100, 1L19  AVSS1_14, 1M3  VSS_101, 1M4  VSS_102, 1M5  VSS_103, 1M6  VSS_104, 1M10  VSS_105, 1M11  VSS_106, 1M12  VSS_107, 1M13  VSS_108, 1M14  VSS_109, 1M15  VSS_110, 1M16  VSS_111, 1M17  VSS_112, 1M20  VSS_113, 1N3  VSS_114, 1N4  VSS_115, 1N7  VSS_116, 1N11  AVSS_9, 1N12  AVSS_10, 1P1  VSS_117, 1P5  VSS_118, 1P6  VSS_119, 1P7  VSS_120, 1P8  AVSS_11, 1P10  AVSS_12, 1P14  AVSS_13, 1P15  VSS_121, 1R3  VSS_122, 1R4  VSS_123, 1R5  VSS_124, 1R6  VSS_125, 1R7  VSS_126, 1R8  AVSS_14, 1R9  AVSS_15, 1R11  AVSS_16, 1R12  AVSS_17, 1R13  AVSS_18, 1R14  AVSS_19, 1R15  AVSS_20, 1T3 VSS_127, 1T5 VSS_128, 1T7 AVSS_21, 1T8 AVSS_22, 1T9 AVSS_23, 1T10 AVSS_24, 1T11 AVSS_25, 1T12 AVSS_26, 1T13 AVSS_27, 1T14 AVSS_28, 1T15 AVSS_29, 1T16 AVSS_30, 1T17 AVSS_31, 1U2 VSS_129, 1U12 AVSS_32, 1U13 AVSS_33, 1U15 AVSS_34, 1U17 AVSS_35, 1V1 VSS_130, 1V4 VSS_131, 1V7 AVSS_36, 1V12 AVSS_37, 1V13 AVSS_38, 1V18 AVSS_39, A1 VSS_1, A2 VSS_2, A38 VSS_3, AA2 VSS_18, AC37 VSS_24, AD2 VSS_19, AE37 VSS_25, AH37 VSS_26, AL37 VSS_27, AP2 VSS_20, AP8 VSS_22, AP13 AVSS_1, AP16 AVSS_2, AP19 AVSS_3, AP22 AVSS_4, AP25 AVSS_5, AP28 AVSS_6, AP31 AVSS_7, AP34 AVSS_8, AP37 VSS_28, AR1 VSS_21, AR38 VSS_29, B1 VSS_4, B2 VSS_5, B6 VSS_6, B11 VSS_7, B14 VSS_8, B18 VSS_9, B21 VSS_10, B28 VSS_11, B31 VSS_12, D2 VSS_13, E37 VSS_23, H37 AVSS1_1, J2 VSS_14, L2 VSS_15, L37 AVSS1_2, P37 AVSS1_3, U2 VSS_16, U37 AVSS1_4, W2 VSS_17, Y37 AVSS1_5
part A text: 3.3V; 1.8V/3.3V
part B text: 1.8V/3.3V
part C text: 1.8V/3.3V
part D text: PCIE/SATA; USB; HDMI2.0_TX; DisplayPort_TX
part E text: MIPI_CSI; MIPI_DSI
part F text: DDR PHY
part G text: POWER pins
part H text: GND pins